# Altium schematic symbol library PIN.SchLib: 2 symbols
Pins are listed as number, name and electrical type; pins without a type are passive.

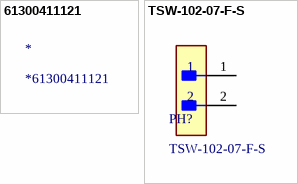
[diagram p0: symbols 61300411121 to TSW-102-07-F-S]

## 61300411121
designator *, comment *61300411121
2 Positions Header, Unshrouded Connector 0.100" (2.54mm) Through Hole Gold; Manufacturer: Samtec; Manufacturer Part Number: TSW-102-07-F-S; Manufacturer Lifecycle Status: PRODUCTION; Connector Type: Male Pin; Gender: Male; Max Current Rating: 7.6A; Max Voltage Rating (AC): 550V; Number of Contacts: 2; Supplier: Avnet; Supplier Part Number: TSW-102-07-F-S; RoHS: Compliant; Category: Headers and Wire Housings; Stock: 10000; Pricing: 1=0,10388, 2=0,10335, 4=0,10282, 8=0,10229, 16=0,0768 (USD); Color: Black; Contact Material: Gold, Nickel; Contact Mating Length: 5.842mm; Contact Plating: Gold; Depth: 2.54mm; Height: 8.71mm; Housing Color: Black; Housing Material: Polyester; Lead Pitch: 2.54mm; Lifecycle Status: Production; Max Operating Temperature: 125°C; Min Operating Temperature: -55°C; Mounting Technology: Through Hole; Pins: 2; Number of Positions: 2; Number of Rows: 1; Orientation: Straight; Pitch: 2.54mm; Radiation Hardening: No; REACH SVHC: No; Termination: Solder; Voltage Rating: 550V; ComponentLink1URL: https://datasheet.octopart.com:443/TSW-102-07-F-S-Samtec-datasheet-142046629.pdf?src-supplier=Upverter; ComponentLink1Description: https://datasheet.octopart.com:443/TSW-102-07-F-S-Samtec-datasheet-142046629.pdf?src-supplier=Upverter; ComponentLink2URL: https://sigma.octopart.com:443/14433679/technical_drawing/Samtec-TSW-102-07-F-S.pdf?src-supplier=Upverter; ComponentLink2Description: https://sigma.octopart.com:443/14433679/technical_drawing/Samtec-TSW-102-07-F-S.pdf?src-supplier=Upverter; ComponentLink3URL: https://datasheet.octopart.com:443/TSW-102-07-F-S-Samtec-datasheet-97325576.pdf?src-supplier=Sager+Electronics; ComponentLink3Description: https://datasheet.octopart.com:443/TSW-102-07-F-S-Samtec-datasheet-97325576.pdf?src-supplier=Sager+Electronics; ComponentLink4URL: https://datasheet.octopart.com:443/TSW-102-07-F-S-Samtec-datasheet-151455181.pdf?src-supplier=Sager+Electronics; ComponentLink4Description: https://datasheet.octopart.com:443/TSW-102-07-F-S-Samtec-datasheet-151455181.pdf?src-supplier=Sager+Electronics; ComponentLink5URL: https://sigma.octopart.com:443/97325577/technical_drawing/Samtec-TSW-102-07-F-S.pdf?src-supplier=Samtec; ComponentLink5Description: https://sigma.octopart.com:443/97325577/technical_drawing/Samtec-TSW-102-07-F-S.pdf?src-supplier=Samtec; ComponentLink6URL: https://datasheet.octopart.com:443/TSW-102-07-F-S-Samtec-datasheet-62107121.pdf?src-supplier=Newark; ComponentLink6Description: https://datasheet.octopart.com:443/TSW-102-07-F-S-Samtec-datasheet-62107121.pdf?src-supplier=Newark; ComponentLink7URL: https://datasheet.octopart.com:443/TSW-102-07-F-S-Samtec-datasheet-164324425.pdf?src-supplier=Newark; ComponentLink7Description: https://datasheet.octopart.com:443/TSW-102-07-F-S-Samtec-datasheet-164324425.pdf?src-supplier=Newark; ComponentLink8URL: https://datasheet.octopart.com:443/TSW-102-07-F-S-Samtec-datasheet-11047283.pdf?src-supplier=Newark; ComponentLink8Description: https://datasheet.octopart.com:443/TSW-102-07-F-S-Samtec-datasheet-11047283.pdf?src-supplier=Newark; ComponentLink9URL: https://datasheet.octopart.com:443/TSW-102-07-F-S-Samtec-datasheet-136646178.pdf?src-supplier=Master+Electronics; ComponentLink9Description: https://datasheet.octopart.com:443/TSW-102-07-F-S-Samtec-datasheet-136646178.pdf?src-supplier=Master+Electronics; ComponentLink10URL: https://datasheet.octopart.com:443/TSW-102-07-F-S-Samtec-datasheet-116615235.pdf?src-supplier=Electro+Sonic; ComponentLink10Description: https://datasheet.octopart.com:443/TSW-102-07-F-S-Samtec-datasheet-116615235.pdf?src-supplier=Electro+Sonic; ComponentLink11URL: https://datasheet.octopart.com:443/TSW-102-07-F-S-Samtec-datasheet-182948906.pdf?src-supplier=JRH+Electronics; ComponentLink11Description: https://datasheet.octopart.com:443/TSW-102-07-F-S-Samtec-datasheet-182948906.pdf?src-supplier=JRH+Electronics; ComponentLink12URL: https://datasheet.octopart.com:443/TSW-102-07-F-S-Samtec-datasheet-160657603.pdf?src-supplier=Toby+Electronics; ComponentLink12Description: https://datasheet.octopart.com:443/TSW-102-07-F-S-Samtec-datasheet-160657603.pdf?src-supplier=Toby+Electronics; ComponentLink13URL: https://datasheet.octopart.com:443/TSW-102-07-F-S-Samtec-datasheet-116539033.pdf?src-supplier=Toby+Electronics; ComponentLink13Description: https://datasheet.octopart.com:443/TSW-102-07-F-S-Samtec-datasheet-116539033.pdf?src-supplier=Toby+Electronics; ComponentLink14URL: https://datasheet.octopart.com:443/TSW-102-07-F-S-Samtec-datasheet-116536310.pdf?src-supplier=Toby+Electronics; ComponentLink14Description: https://datasheet.octopart.com:443/TSW-102-07-F-S-Samtec-datasheet-116536310.pdf?src-supplier=Toby+Electronics; ComponentLink15URL: https://datasheet.octopart.com/TSW-102-07-F-S-Samtec-datasheet-86818365.pdf; ComponentLink15Description: https://datasheet.octopart.com/TSW-102-07-F-S-Samtec-datasheet-86818365.pdf

## TSW-102-07-F-S
designator PH?
2 Positions Header, Unshrouded Connector 0.100" (2.54mm) Through Hole Gold; Manufacturer: Samtec; Manufacturer Lifecycle Status: PRODUCTION; Connector Type: Male Pin; Gender: Male; Max Current Rating: 7.6A; Max Voltage Rating (AC): 550V; Number of Contacts: 2; Supplier: Avnet; Supplier Part Number: TSW-102-07-F-S; Manufacturer Part Number: TSW-102-07-F-S; RoHS: Compliant; Category: Headers and Wire Housings; Stock: 10000; Pricing: 1=0,10388, 2=0,10335, 4=0,10282, 8=0,10229, 16=0,0768 (USD); Color: Black; Contact Material: Gold, Nickel; Contact Mating Length: 5.842mm; Contact Plating: Gold; Depth: 2.54mm; Height: 8.71mm; Housing Color: Black; Housing Material: Polyester; Lead Pitch: 2.54mm; Lifecycle Status: Production; Max Operating Temperature: 125°C; Min Operating Temperature: -55°C; Mounting Technology: Through Hole; Pins: 2; Number of Positions: 2; Number of Rows: 1; Orientation: Straight; Pitch: 2.54mm; Radiation Hardening: No; REACH SVHC: No; Termination: Solder; Voltage Rating: 550V; ComponentLink1URL: https://datasheet.octopart.com:443/TSW-102-07-F-S-Samtec-datasheet-142046629.pdf?src-supplier=Upverter; ComponentLink1Description: https://datasheet.octopart.com:443/TSW-102-07-F-S-Samtec-datasheet-142046629.pdf?src-supplier=Upverter; ComponentLink2URL: https://sigma.octopart.com:443/14433679/technical_drawing/Samtec-TSW-102-07-F-S.pdf?src-supplier=Upverter; ComponentLink2Description: https://sigma.octopart.com:443/14433679/technical_drawing/Samtec-TSW-102-07-F-S.pdf?src-supplier=Upverter; ComponentLink3URL: https://datasheet.octopart.com:443/TSW-102-07-F-S-Samtec-datasheet-97325576.pdf?src-supplier=Sager+Electronics; ComponentLink3Description: https://datasheet.octopart.com:443/TSW-102-07-F-S-Samtec-datasheet-97325576.pdf?src-supplier=Sager+Electronics; ComponentLink4URL: https://datasheet.octopart.com:443/TSW-102-07-F-S-Samtec-datasheet-151455181.pdf?src-supplier=Sager+Electronics; ComponentLink4Description: https://datasheet.octopart.com:443/TSW-102-07-F-S-Samtec-datasheet-151455181.pdf?src-supplier=Sager+Electronics; ComponentLink5URL: https://sigma.octopart.com:443/97325577/technical_drawing/Samtec-TSW-102-07-F-S.pdf?src-supplier=Samtec; ComponentLink5Description: https://sigma.octopart.com:443/97325577/technical_drawing/Samtec-TSW-102-07-F-S.pdf?src-supplier=Samtec; ComponentLink6URL: https://datasheet.octopart.com:443/TSW-102-07-F-S-Samtec-datasheet-62107121.pdf?src-supplier=Newark; ComponentLink6Description: https://datasheet.octopart.com:443/TSW-102-07-F-S-Samtec-datasheet-62107121.pdf?src-supplier=Newark; ComponentLink7URL: https://datasheet.octopart.com:443/TSW-102-07-F-S-Samtec-datasheet-164324425.pdf?src-supplier=Newark; ComponentLink7Description: https://datasheet.octopart.com:443/TSW-102-07-F-S-Samtec-datasheet-164324425.pdf?src-supplier=Newark; ComponentLink8URL: https://datasheet.octopart.com:443/TSW-102-07-F-S-Samtec-datasheet-11047283.pdf?src-supplier=Newark; ComponentLink8Description: https://datasheet.octopart.com:443/TSW-102-07-F-S-Samtec-datasheet-11047283.pdf?src-supplier=Newark; ComponentLink9URL: https://datasheet.octopart.com:443/TSW-102-07-F-S-Samtec-datasheet-136646178.pdf?src-supplier=Master+Electronics; ComponentLink9Description: https://datasheet.octopart.com:443/TSW-102-07-F-S-Samtec-datasheet-136646178.pdf?src-supplier=Master+Electronics; ComponentLink10URL: https://datasheet.octopart.com:443/TSW-102-07-F-S-Samtec-datasheet-116615235.pdf?src-supplier=Electro+Sonic; ComponentLink10Description: https://datasheet.octopart.com:443/TSW-102-07-F-S-Samtec-datasheet-116615235.pdf?src-supplier=Electro+Sonic; ComponentLink11URL: https://datasheet.octopart.com:443/TSW-102-07-F-S-Samtec-datasheet-182948906.pdf?src-supplier=JRH+Electronics; ComponentLink11Description: https://datasheet.octopart.com:443/TSW-102-07-F-S-Samtec-datasheet-182948906.pdf?src-supplier=JRH+Electronics; ComponentLink12URL: https://datasheet.octopart.com:443/TSW-102-07-F-S-Samtec-datasheet-160657603.pdf?src-supplier=Toby+Electronics; ComponentLink12Description: https://datasheet.octopart.com:443/TSW-102-07-F-S-Samtec-datasheet-160657603.pdf?src-supplier=Toby+Electronics; ComponentLink13URL: https://datasheet.octopart.com:443/TSW-102-07-F-S-Samtec-datasheet-116539033.pdf?src-supplier=Toby+Electronics; ComponentLink13Description: https://datasheet.octopart.com:443/TSW-102-07-F-S-Samtec-datasheet-116539033.pdf?src-supplier=Toby+Electronics; ComponentLink14URL: https://datasheet.octopart.com:443/TSW-102-07-F-S-Samtec-datasheet-116536310.pdf?src-supplier=Toby+Electronics; ComponentLink14Description: https://datasheet.octopart.com:443/TSW-102-07-F-S-Samtec-datasheet-116536310.pdf?src-supplier=Toby+Electronics; ComponentLink15URL: https://datasheet.octopart.com/TSW-102-07-F-S-Samtec-datasheet-86818365.pdf; ComponentLink15Description: https://datasheet.octopart.com/TSW-102-07-F-S-Samtec-datasheet-86818365.pdf; Supplier 1: DigiKey; Supplier Part Number 1: SAM10844-ND
footprint TSW-102-07-F-S
pins: 1, 2